# Altium schematic symbol library SCH - MCU - INFINEON - INFINEON MB9BF465KQN QFN-48.SchLib: 1 symbol
Pins are listed as number, name and electrical type; pins without a type are passive.

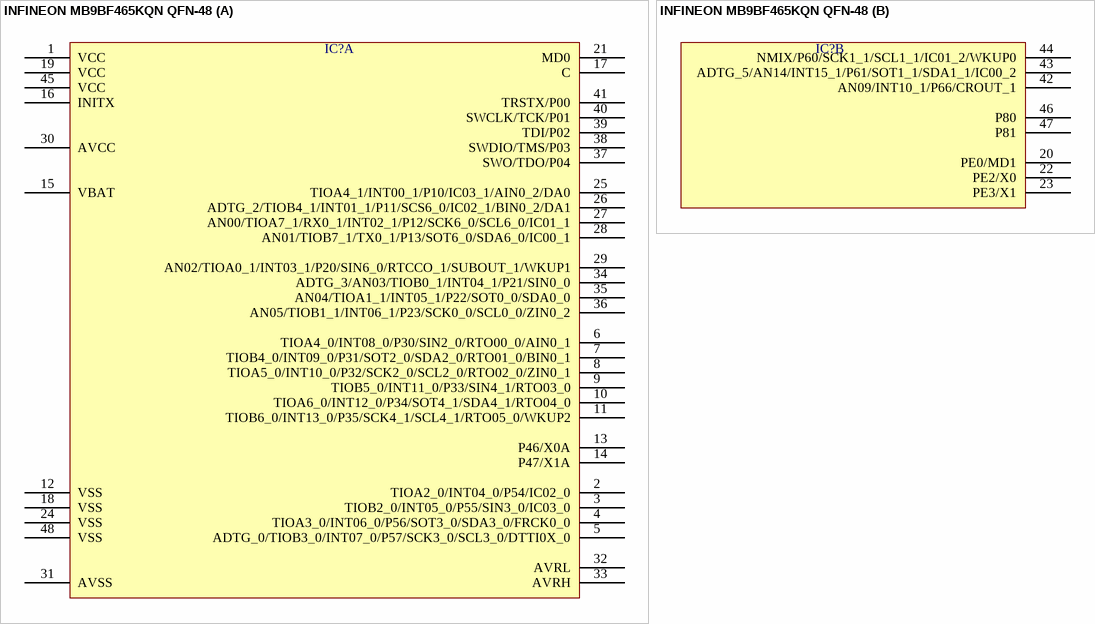
[diagram p0: symbol INFINEON MB9BF465KQN QFN-48]

## INFINEON MB9BF465KQN QFN-48
designator IC?  (value not drawn)
part A pins: 1 VCC, 2 TIOA2_0/INT04_0/P54/IC02_0, 3 TIOB2_0/INT05_0/P55/SIN3_0/IC03_0, 4 TIOA3_0/INT06_0/P56/SOT3_0/SDA3_0/FRCK0_0, 5 ADTG_0/TIOB3_0/INT07_0/P57/SCK3_0/SCL3_0/DTTI0X_0, 6 TIOA4_0/INT08_0/P30/SIN2_0/RTO00_0/AIN0_1, 7 TIOB4_0/INT09_0/P31/SOT2_0/SDA2_0/RTO01_0/BIN0_1, 8 TIOA5_0/INT10_0/P32/SCK2_0/SCL2_0/RTO02_0/ZIN0_1, 9 TIOB5_0/INT11_0/P33/SIN4_1/RTO03_0, 10 TIOA6_0/INT12_0/P34/SOT4_1/SDA4_1/RTO04_0, 11 TIOB6_0/INT13_0/P35/SCK4_1/SCL4_1/RTO05_0/WKUP2, 12 VSS, 13 P46/X0A, 14 P47/X1A, 15 VBAT, 16 INITX, 17 C, 18 VSS, 19 VCC, 21 MD0, 24 VSS, 25 TIOA4_1/INT00_1/P10/IC03_1/AIN0_2/DA0, 26 ADTG_2/TIOB4_1/INT01_1/P11/SCS6_0/IC02_1/BIN0_2/DA1, 27 AN00/TIOA7_1/RX0_1/INT02_1/P12/SCK6_0/SCL6_0/IC01_1, 28 AN01/TIOB7_1/TX0_1/P13/SOT6_0/SDA6_0/IC00_1, 29 AN02/TIOA0_1/INT03_1/P20/SIN6_0/RTCCO_1/SUBOUT_1/WKUP1, 30 AVCC, 31 AVSS, 32 AVRL, 33 AVRH, 34 ADTG_3/AN03/TIOB0_1/INT04_1/P21/SIN0_0, 35 AN04/TIOA1_1/INT05_1/P22/SOT0_0/SDA0_0, 36 AN05/TIOB1_1/INT06_1/P23/SCK0_0/SCL0_0/ZIN0_2, 37 SWO/TDO/P04, 38 SWDIO/TMS/P03, 39 TDI/P02, 40 SWCLK/TCK/P01, 41 TRSTX/P00, 45 VCC, 48 VSS
part B pins: 20 PE0/MD1, 22 PE2/X0, 23 PE3/X1, 42 AN09/INT10_1/P66/CROUT_1, 43 ADTG_5/AN14/INT15_1/P61/SOT1_1/SDA1_1/IC00_2, 44 NMIX/P60/SCK1_1/SCL1_1/IC01_2/WKUP0, 46 P80, 47 P81